# EAGLE library part PHOTON (library scono)
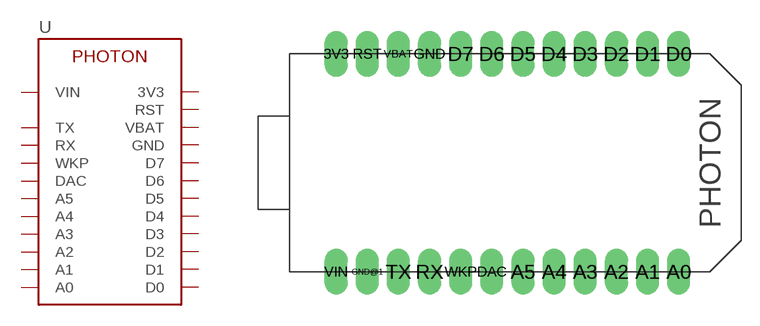
[diagram p55: symbol with the pads of PHOTON; footprint PHOTON]

Designator prefix U

## PHOTON  [PHOTON]
3V3  3V3
A0  A0
A1  A1
A2  A2
A3  A3
A4  A4
A5  A5
D0  D0
D1  D1
D2  D2
D3  D3
D4  D4
D5  D5
D6  D6
D7  D7
DAC  DAC
GND  GND
GND@1  GND
RST  RST
RX  RX
TX  TX
VBAT  VBAT
VIN  VIN
WKP  WKP

## Footprint PHOTON (pad centres in mm)
Plated Through Hole - 4 Pin Specifications: Pin count:4 Pin pitch:0.1" Example device(s): CONN_04
drill 1.016 pad 1.88 long: 3V3 -15.24,8.89; A0 12.7,-8.89; A1 10.16,-8.89; A2 7.62,-8.89; A3 5.08,-8.89; A4 2.54,-8.89; A5 0,-8.89; D0 12.7,8.89; D1 10.16,8.89; D2 7.62,8.89; D3 5.08,8.89; D4 2.54,8.89; D5 0,8.89; D6 -2.54,8.89; D7 -5.08,8.89; DAC -2.54,-8.89; GND -7.62,8.89; GND@1 -12.7,-8.89; RST -12.7,8.89; RX -7.62,-8.89; TX -10.16,-8.89; VBAT -10.16,8.89; VIN -15.24,-8.89; WKP -5.08,-8.89